# EAGLE library part TCS34725 (library Richard_Boards)
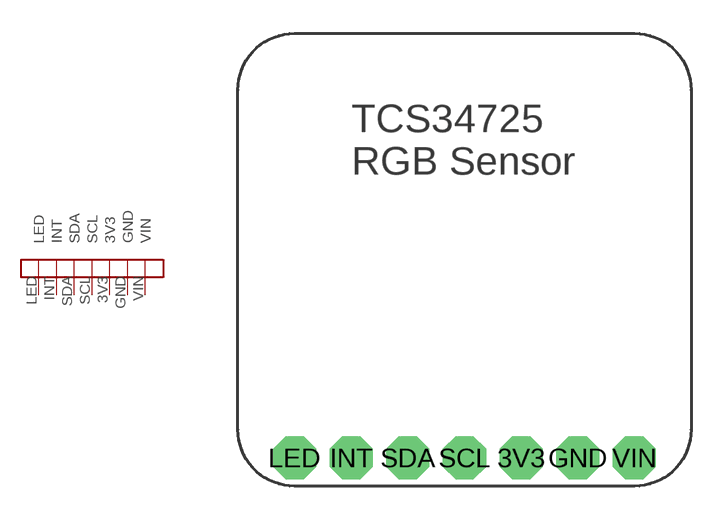
[diagram p13: symbol with the pads of TCS34725; footprint TCS34725]

Designator prefix -

## TCS34725  [TCS34725]
3V3  3V3  pas
GND  GND  pas
INT  INT  pas
LED  LED  pas
SCL  SCL  pas
SDA  SDA  pas
VIN  VIN  pas

## Footprint TCS34725 (pad centres in mm)
TCS34725
drill 1.016 pad 1.93 octagon: 3V3 10.16,0; GND 12.7,0; INT 2.54,0; LED 0,0; SCL 7.62,0; SDA 5.08,0; VIN 15.24,0